# EAGLE library part ESP-12F (library Module)
Ai Thinker ESP-12F ESP8266 WiFi Module Created by: Wai Weng
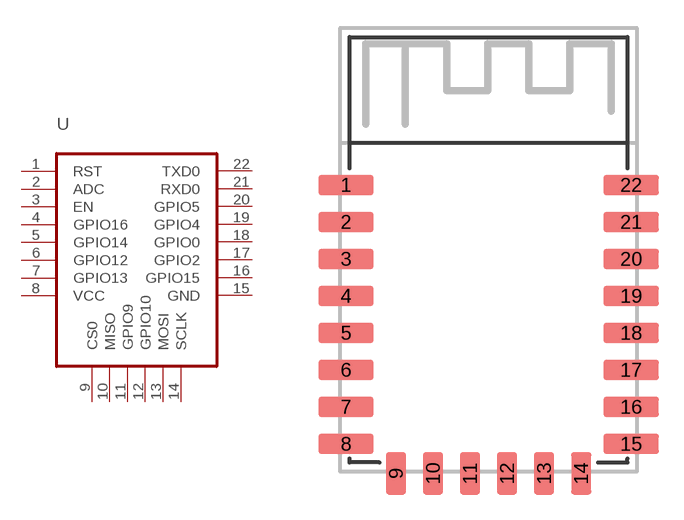
[diagram p16: symbol with the pads of ESP-12F; footprint ESP-12F]

Designator prefix U

## ESP-12F (DESC: Ai Thinker ESP8266 WiFi Module; MF: Ai Thinker; MPN: ESP-12F)  [ESP-12F]
1  RST
2  ADC
3  EN
4  GPIO16
5  GPIO14
6  GPIO12
7  GPIO13
8  VCC
9  CS0
10  MISO
11  GPIO9
12  GPIO10
13  MOSI
14  SCLK
15  GND
16  GPIO15
17  GPIO2
18  GPIO0
19  GPIO4
20  GPIO5
21  RXD0
22  TXD0

## Footprint ESP-12F (pad centres in mm)
Ai Thinker ESP-12F Created by: Wai Weng
smd 3 x 1.1: 1 -7.7,3.5; 2 -7.7,1.5; 3 -7.7,-0.5; 4 -7.7,-2.5; 5 -7.7,-4.5; 6 -7.7,-6.5; 7 -7.7,-8.5; 8 -7.7,-10.5; 15 7.7,-10.5; 16 7.7,-8.5; 17 7.7,-6.5; 18 7.7,-4.5; 19 7.7,-2.5; 20 7.7,-0.5; 21 7.7,1.5; 22 7.7,3.5
smd 1.1 x 2.3: 9 -5,-12.1; 10 -3,-12.1; 11 -1,-12.1; 12 1,-12.1; 13 3,-12.1; 14 5,-12.1